# Altium footprint library VSON-8(3.0X3.0)-T16X24.PcbLib: 1 footprints
Each footprint in its own frame and in the unit in brackets; x right, y up, seen from the top. Pads: shape width x height; smd on the part's side, far side on the other; paste and mask are expansions set on the pad; w line width, h text height; cw(c..) or ccw(c..) is an arc to the next point about the centre after c.
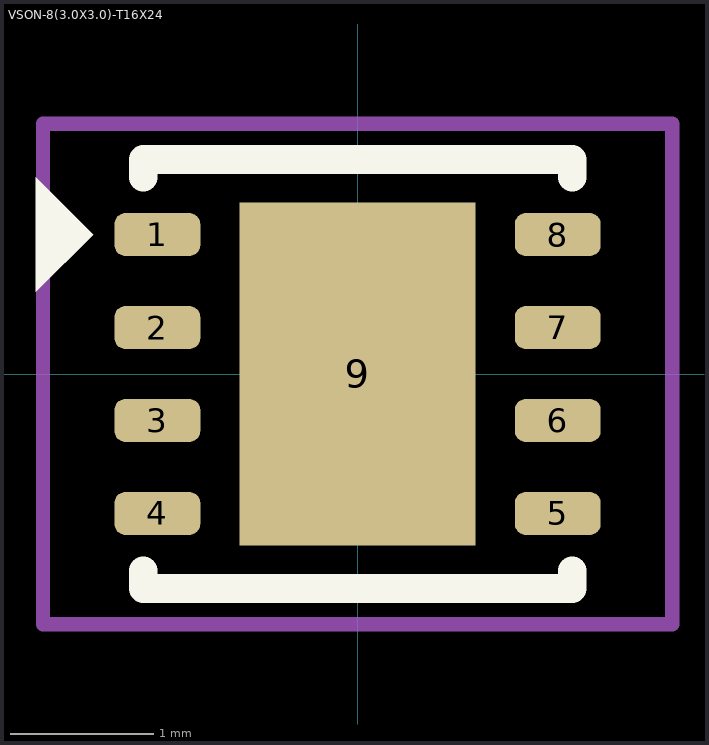
[diagram p0: the footprint, top view; thin cyan lines are the x and y axes]

## VSON-8(3.0X3.0)-T16X24 [mm]
pads (9):
  rrect50% 0.6x0.3 smd: 1(-1.4,0.975) 2(-1.4,0.325) 3(-1.4,-0.325) 4(-1.4,-0.975) 5(1.4,-0.975) 6(1.4,-0.325) 7(1.4,0.325) 8(1.4,0.975)
  rect 1.65x2.4 smd paste-0.825: 9(0,0)
Top Overlay:
  region: -2.25,0.575 -2.25,1.375 -1.85,0.975
  lines w0.2: -1.5,-1.375 -1.5,-1.5 1.5,-1.5 1.5,-1.375 ; -1.5,1.375 -1.5,1.5 1.5,1.5 1.5,1.375
Top Paste:
  rectangle: -0.75,0.125 0.75,1.125
  region: 0.75,-0.125 -0.75,-0.125 -0.75,-1.125 0.75,-1.125
Top Courtyard:
  lines w0.1: -2.2,-1.75 -2.2,1.75 2.2,1.75 2.2,-1.75 -2.2,-1.75
3D body "DRB0008J.stp": height 1, standoff 0, extent -1.5,-1.5 1.5,1.5